# Altium schematic symbol library WeAct-STM32F103RCXX.SchLib: 1 symbol
Pins are listed as number, name and electrical type; pins without a type are passive.

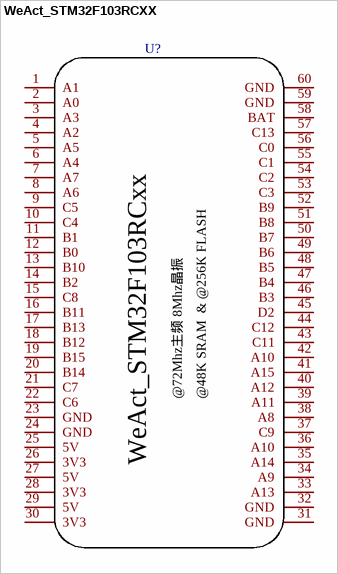
[diagram p0: symbol WeAct_STM32F103RCXX]

## WeAct_STM32F103RCXX
designator U?  (value not drawn)
Add into BOM: yes; Name: WeAct_STM32F103RCxx; Symbol: WeAct_STM32F103RCXX; Device: WeAct_STM32F103RCXX; Convert to PCB: yes
footprint WeAct_STM32F103RCxx
pins: 1 A1, 2 A0, 3 A3, 4 A2, 5 A5, 6 A4, 7 A7, 8 A6, 9 C5, 10 C4, 11 B1, 12 B0, 13 B10, 14 B2, 15 C8, 16 B11, 17 B13, 18 B12, 19 B15, 20 B14, 21 C7, 22 C6, 23 GND, 24 GND, 25 5V, 26 3V3, 27 5V, 28 3V3, 29 5V, 30 3V3, 31 GND, 32 GND, 33 A13, 34 A9, 35 A14, 36 A10, 37 C9, 38 A8, 39 A11, 40 A12, 41 A15, 42 A10, 43 C11, 44 C12, 45 D2, 46 B3, 47 B4, 48 B5, 49 B6, 50 B7, 51 B8, 52 B9, 53 C3, 54 C2, 55 C1, 56 C0, 57 C13, 58 BAT, 59 GND, 60 GND
text: @72Mhz主频 8Mhz晶振; @48K SRAM  & @256K FLASH